# Altium schematic symbol library conn_header_1.27mm_box_idc.SchLib: 6 symbols
Pins are listed as number, name and electrical type; pins without a type are passive.

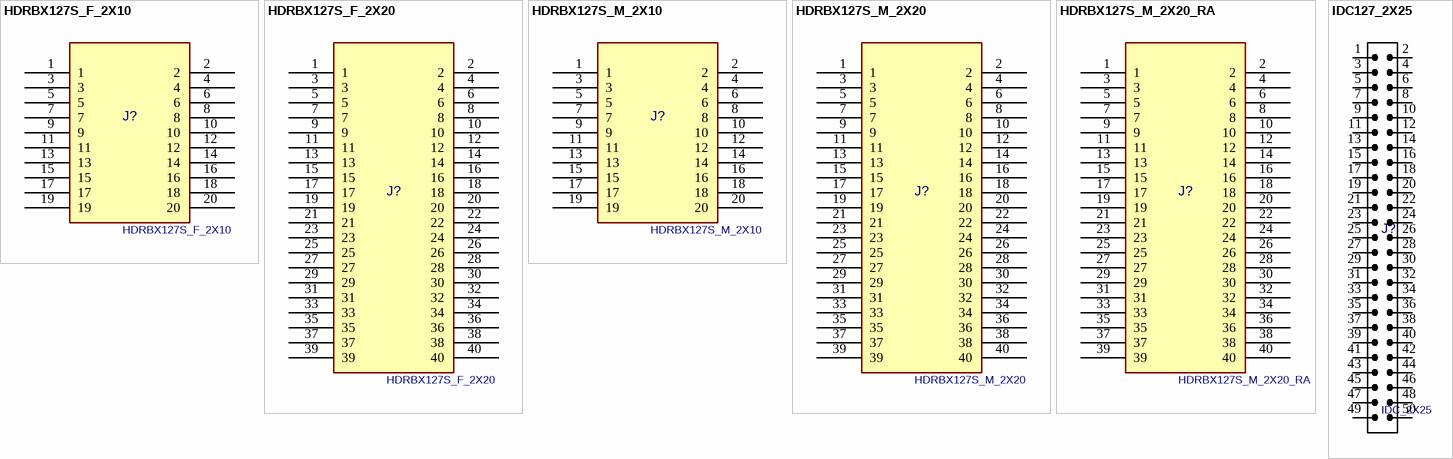
[diagram p0: symbols HDRBX127S_F_2X10 to IDC127_2X25]

## HDRBX127S_F_2X10
designator J?
Conn, Header, Box, Female, SMD; MANF: Harwin; MANF_P#: M55-6002042; VALUE: HDRBX127S_F_2X10
footprint M556002042 (Conn. HDR BOX 1.27mm SMT, M55-6002042)
pins: 1, 2, 3, 4, 5, 6, 7, 8, 9, 10, 11, 12, 13, 14, 15, 16, 17, 18, 19, 20

## HDRBX127S_F_2X20
designator J?
Conn, Header, Box, Female, SMD; MANF: Harwin; MANF_P#: M55-6004042; VALUE: HDRBX127S_F_2X20
footprint M556004042 (Conn. HDR BOX 1.27mm SMT, M55-6004042)
pins: 1, 2, 3, 4, 5, 6, 7, 8, 9, 10, 11, 12, 13, 14, 15, 16, 17, 18, 19, 20, 21, 22, 23, 24, 25, 26, 27, 28, 29, 30, 31, 32, 33, 34, 35, 36, 37, 38, 39, 40

## HDRBX127S_M_2X10
designator J?
Conn, Header, Box, Male, SMD; MANF: Harwin; MANF_P#: M55-7012042; VALUE: HDRBX127S_M_2X10
footprint M557012042 (Conn. HDR BOX 1.27mm SMT, M55-7012042)
pins: 1, 2, 3, 4, 5, 6, 7, 8, 9, 10, 11, 12, 13, 14, 15, 16, 17, 18, 19, 20

## HDRBX127S_M_2X20
designator J?
Conn, Header, Box, Male, SMD; MANF: Harwin; MANF_P#: M55-7014042; VALUE: HDRBX127S_M_2X20
footprint M557014042 (Conn. HDR BOX 1.27mm SMT, M55-7014042)
footprint M557014042_NP (Conn. HDR BOX 1.27mm SMT, M55-7014042 no polarized)
pins: 1, 2, 3, 4, 5, 6, 7, 8, 9, 10, 11, 12, 13, 14, 15, 16, 17, 18, 19, 20, 21, 22, 23, 24, 25, 26, 27, 28, 29, 30, 31, 32, 33, 34, 35, 36, 37, 38, 39, 40

## HDRBX127S_M_2X20_RA
designator J?
Conn, Header, Box, Male, SMD; MANF: Harwin; MANF_P#: M55-7104042; VALUE: HDRBX127S_M_2X20_RA
footprint M557104042 (Conn. HDR BOX 1.27mm SMT, M55-7104042)
footprint M557104042_NP (Conn. HDR BOX 1.27mm SMT, M55-7104042 no polarized)
pins: 1, 2, 3, 4, 5, 6, 7, 8, 9, 10, 11, 12, 13, 14, 15, 16, 17, 18, 19, 20, 21, 22, 23, 24, 25, 26, 27, 28, 29, 30, 31, 32, 33, 34, 35, 36, 37, 38, 39, 40

## IDC127_2X25
designator J?, comment IDC_2X25
CONN, IDC, Male, pitch: 1.27mm, 50POS; MANF_P#: 62705020621, 62735020621; VALUE: IDC_2X25
footprint IDC127_2X25 (Box Header SMT type, 50p, 62705020621)
pins: 1, 2, 3, 4, 5, 6, 7, 8, 9, 10, 11, 12, 13, 14, 15, 16, 17, 18, 19, 20, 21, 22, 23, 24, 25, 26, 27, 28, 29, 30, 31, 32, 33, 34, 35, 36, 37, 38, 39, 40, 41, 42, 43, 44, 45, 46, 47, 48, 49, 50